# Altium footprint library RA-01.PcbLib: 1 footprints
Each footprint in its own frame and in the unit in brackets; x right, y up, seen from the top. Pads: shape width x height; smd on the part's side, far side on the other; paste and mask are expansions set on the pad; w line width, h text height; cw(c..) or ccw(c..) is an arc to the next point about the centre after c.
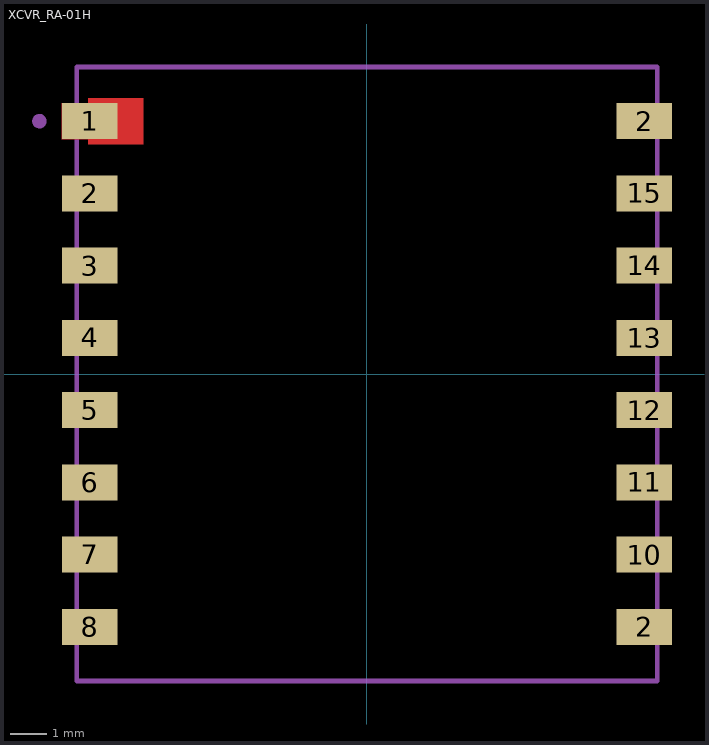
[diagram p0: the footprint, top view; thin cyan lines are the x and y axes]

## XCVR_RA-01H [mm]
height 3.4
pads (16):
  rect 1.536x1 smd paste-2 mask+0: 1(-7.682,7)
  rect 1.536x1 smd: 2(-7.682,5) 2(7.682,-7) 2(7.682,7) 3(-7.682,3) 4(-7.682,1) 5(-7.682,-1) 6(-7.682,-3) 7(-7.682,-5) 8(-7.682,-7) 10(7.682,-5) 11(7.682,-3) 12(7.682,-1) 13(7.682,1) 14(7.682,3) 15(7.682,5)
Top Layer:
  region: -6.188,6.365 -7.724,6.365 -7.724,6.5 -8.45,6.5 -8.45,7.5 -7.724,7.5 -7.724,7.635 -6.188,7.635
Top Paste:
  region: -6.188,6.365 -7.724,6.365 -7.724,6.5 -8.45,6.5 -8.45,7.5 -7.724,7.5 -7.724,7.635 -6.188,7.635
Top Solder:
  region: -6.088,6.265 -7.824,6.265 -7.824,6.4 -8.55,6.4 -8.55,7.6 -7.824,7.6 -7.824,7.735 -6.088,7.735
Mechanical 1:
  circle w0.2: c-9.069,7 r0.1
  lines w0.127: -8.031,-8.5 -8.031,8.5 8.031,8.5 8.031,-8.5 -8.031,-8.5
3D body "RA-01H--3DModel-STEP-1.STEP": height 3.41, standoff 0, extent -8,-8.5 8,8.5